# Altium integrated library TL3AR025FTDG.IntLib: 1 symbol
Pins are listed as number, name and electrical type; pins without a type are passive.

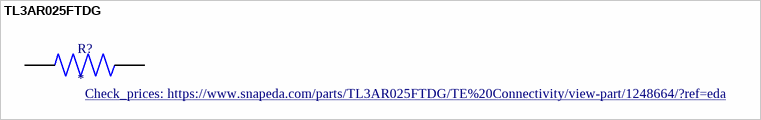
[diagram p0: symbol TL3AR025FTDG]

## TL3AR025FTDG
designator R?
Res Metal Foil 2512 0.025 Ohm 1% 1W Â±75ppm/Â°C Molded SMD SMD T/R; MF: TE Connectivity; Resistance: .025; MP: TL3AR025FTDG; Availability: Warning; Power_Rating: 1 W; Value: *; Package: 2512; Price: None; SnapEDA_Link: https://www.snapeda.com/parts/TL3AR025FTDG/TE%20Connectivity/view-part/1248664/?ref=snap; Tolerance: 1%; Purchase-URL: https://pricing.snapeda.com/search/part/TL3AR025FTDG/?ref=eda; EU_RoHS_Compliance: Compliant; Check_prices: https://www.snapeda.com/parts/TL3AR025FTDG/TE%20Connectivity/view-part/1248664/?ref=eda
footprint RESC6432X60N
pins: 1, 2